# Altium schematic symbol library ethernet.SchLib: 1 symbol
Pins are listed as number, name and electrical type; pins without a type are passive.

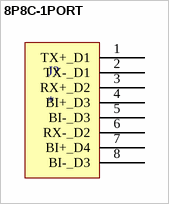
[diagram p0: symbol 8P8C-1PORT]

## 8P8C-1PORT
designator J?
footprint 8P8C-1PORT
pins: 1 TX+_D1, 2 TX-_D1, 3 RX+_D2, 4 BI+_D3, 5 BI-_D3, 6 RX-_D2, 7 BI+_D4, 8 BI-_D3